# Altium footprint library planar.PcbLib: 42 footprints (part 2 of 3)
Each footprint in its own frame and in the unit in brackets; x right, y up, seen from the top. Pads: shape width x height; smd on the part's side, far side on the other; paste and mask are expansions set on the pad; w line width, h text height; cw(c..) or ccw(c..) is an arc to the next point about the centre after c.
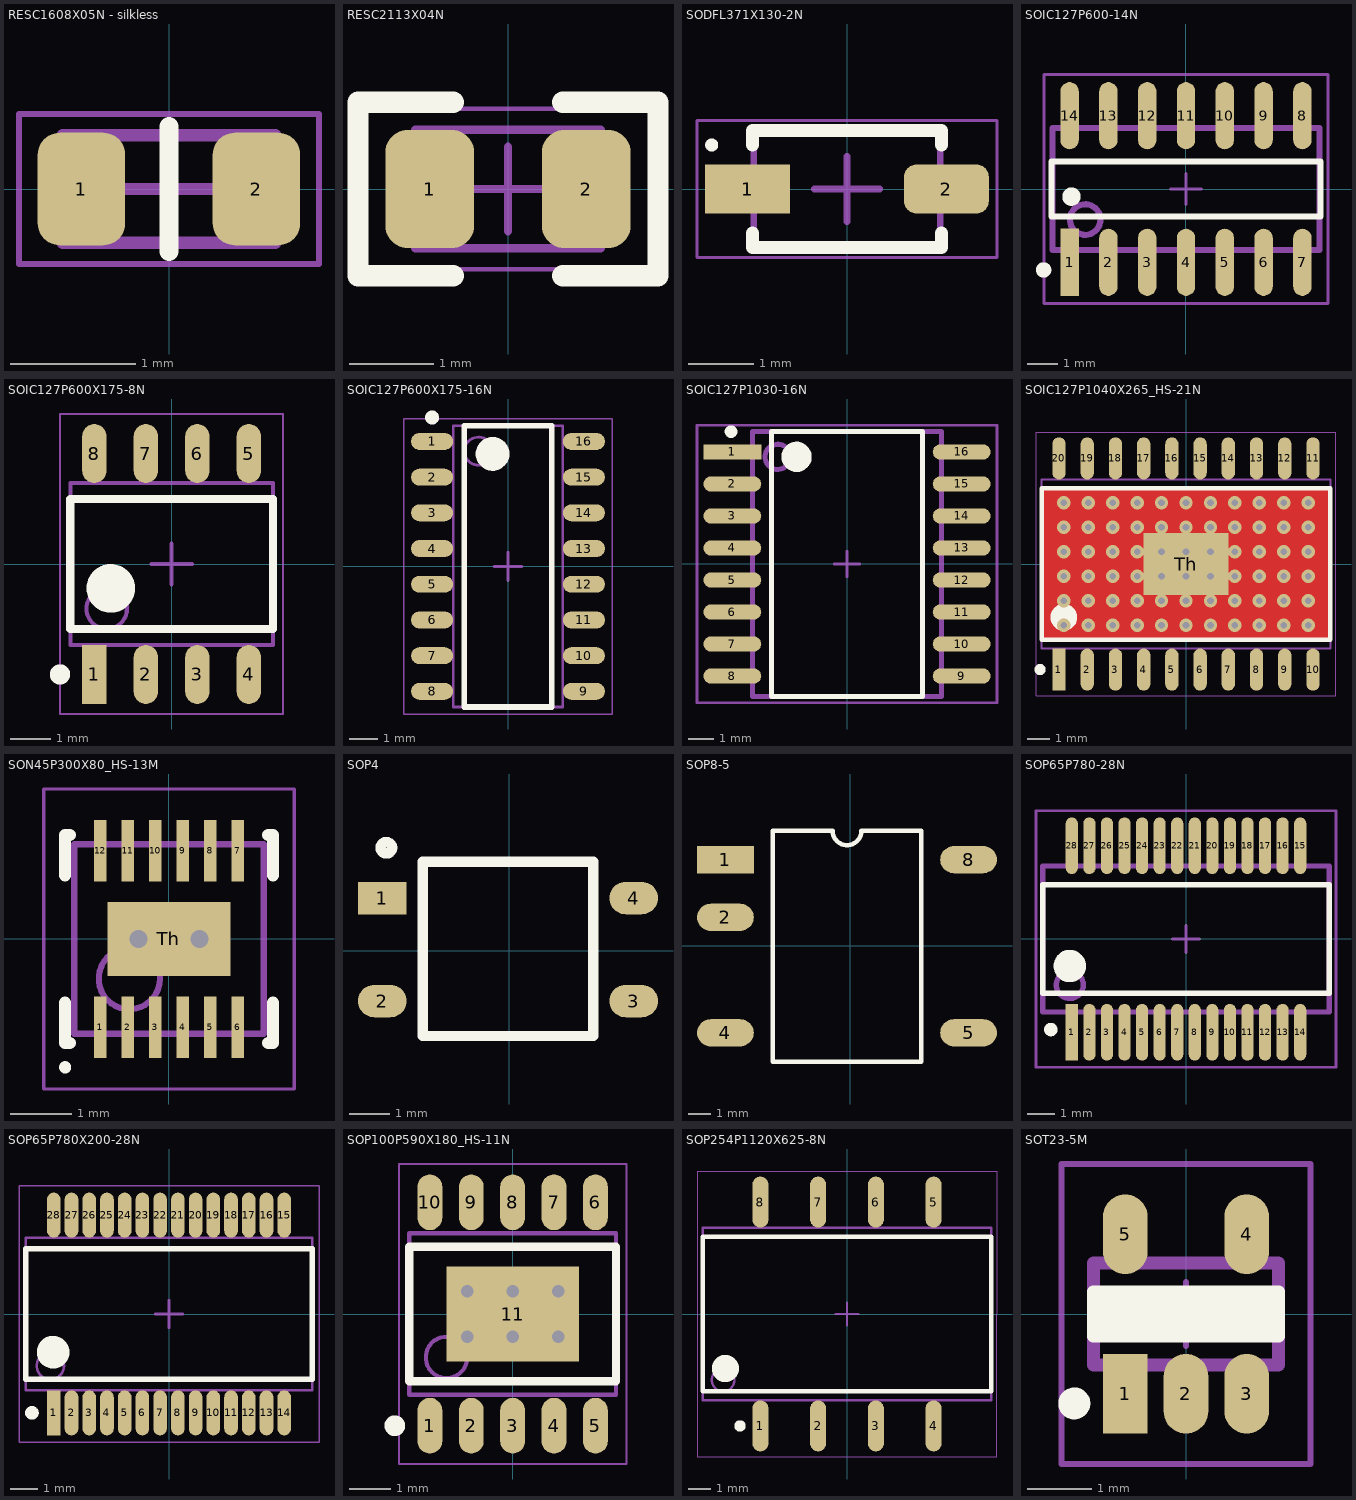
[diagram p1: the footprints below, top view; thin cyan lines are the x and y axes]

## RESC1608X05N - silkless [mm] "Chip Resistor, 2-Leads, Body 1,60x0,85mm, IPC Medium Density"
height 0.5
pads (2):
  rrect50% 0.7x0.9 smd: 1(-0.7,0) 2(0.7,0)
Top Overlay:
  lines w0.15: 0,-0.5 0,0.5
Mechanical 13:
  lines w0.1: -0.85,-0.43 -0.85,0.43 0.85,0.43 0.85,-0.43 -0.85,-0.43
Mechanical 15:
  lines w0.05: -1.2,-0.6 -1.2,0.6 1.2,0.6 1.2,-0.6 -1.2,-0.6
  lines w0.1: -0.43,0 0.43,0 ; 0,-0.43 0,0.43
3D body "Res0603.STEP": height 0.45, standoff 0, extent -0.8,-0.425 0.8,0.425

## RESC2113X04N [mm] "Chip Resistor, 2-Leads, Body 2,10x1,30mm, IPC Medium Density"
height 0.4
pads (2):
  rrect50% 1.05x1.4 smd: 1(-0.925,0) 2(0.925,0)
Top Overlay:
  lines w0.254: -0.65,-1.025 -1.775,-1.025 -1.775,1.025 -0.65,1.025 ; 0.65,-1.025 1.775,-1.025 1.775,1.025 0.65,1.025
Mechanical 13:
  lines w0.1: -1.1,-0.7 1.1,-0.7 1.1,0.7 -1.1,0.7 -1.1,-0.7
Mechanical 15:
  lines w0.05: -1.7,-0.95 1.7,-0.95 1.7,0.95 -1.7,0.95 -1.7,-0.95
  lines w0.1: -0.5,0 0.5,0 ; 0,-0.5 0,0.5
3D body "Res0805.STEP": height 0.5, standoff 0, extent -1.05,-0.65 1.05,0.65

## SODFL371X130-2N [mm] "SODFL, 2-Leads, Body 1,60x3,71mm, IPC Medium Density"
height 1.3
pads (2):
  rect 1.3x0.75 smd: 1(-1.525,0)
  rrect50% 1.3x0.75 smd: 2(1.525,0)
Top Overlay:
  circle w0.1: c-2.075,0.675 r0.05
  lines w0.2: -1.45,-0.675 -1.45,-0.9 1.45,-0.9 1.45,-0.675 ; -1.45,0.675 -1.45,0.9 1.45,0.9 1.45,0.675
Mechanical 13:
  lines w0.1: -1.43,-0.9 -1.43,0.9 1.43,0.9 1.43,-0.9 -1.43,-0.9
Mechanical 15:
  lines w0.05: -2.3,-1.05 -2.3,1.05 2.3,1.05 2.3,-1.05 -2.3,-1.05
  lines w0.1: -0.5,0 0.5,0 ; 0,-0.5 0,0.5
3D body "SODFL371X130-2N.step": height 1.3, standoff 0, extent -1.855,-0.9 1.855,0.9

## SOIC127P600-14N [mm]
pads (14):
  rect 0.6x2.2 smd: 1(-3.802,-2.398)
  oval 0.6x2.2 smd: 2(-2.532,-2.398) 3(-1.262,-2.398) 4(0.008,-2.398) 5(1.278,-2.398) 6(2.548,-2.398) 7(3.818,-2.398) 8(3.818,2.402) 9(2.548,2.402) 10(1.278,2.402) 11(0.008,2.402) 12(-1.262,2.402) 13(-2.532,2.402) 14(-3.802,2.402)
Top Overlay:
  circle w0.3: c-3.742,-0.248 r0.15
  circle w0.25: c-4.652,-2.648 r0.125
  lines w0.2: -4.392,-0.898 -4.392,0.902 4.408,0.902 4.408,-0.898 -4.392,-0.898
Mechanical 11:
  lines w0.001: -4.367,-1.998 -4.367,2.002 4.383,2.002 4.383,-1.998 -4.367,-1.998
Mechanical 13:
  circle w0.2: c-3.292,-0.998 r0.5
  lines w0.2: -4.367,-1.998 -4.367,2.002 4.383,2.002 4.383,-1.998 -4.367,-1.998
Mechanical 15:
  lines w0.1: -0.492,0.002 0.508,0.002 ; 0.008,-0.498 0.008,0.502 ; -4.642,-3.748 -4.642,3.752 4.658,3.752 4.658,-3.748 -4.642,-3.748
3D body "User Library-so14-2.STEP": height 1.78, standoff 0.01, extent -4.315,-3.023 4.385,3.113

## SOIC127P600X175-8N [mm] "SOIC, 8-Leads, Body 4,90x3,90mm, Pitch 1,27mm, IPC Medium Density"
height 1.75
pads (8):
  rect 0.6x1.45 smd: 1(-1.905,-2.725)
  oval 0.6x1.45 smd: 2(-0.635,-2.725) 3(0.635,-2.725) 4(1.905,-2.725) 5(1.905,2.725) 6(0.635,2.725) 7(-0.635,2.725) 8(-1.905,2.725)
Top Overlay:
  circle w0.25: c-2.755,-2.725 r0.125
  circle w0.6: c-1.5,-0.6 r0.3
  lines w0.2: -2.5,-1.6 2.5,-1.6 2.5,1.6 -2.5,1.6 -2.5,-1.6
Mechanical 13:
  circle w0.1: c-1.6,-1.1 r0.5
  lines w0.1: -2.5,-2 2.5,-2 2.5,2 -2.5,2 -2.5,-2
Mechanical 15:
  lines w0.05: -2.75,-3.7 2.75,-3.7 2.75,3.7 -2.75,3.7 -2.75,-3.7
  lines w0.1: -0.5,0 0.5,0 ; 0,-0.5 0,0.5
3D body "SOIC127P600X175-8N.step": height 1.75, standoff 0, extent -2.5,-3 2.5,3

## SOIC127P600X175-16N [mm] "SOIC, 16-Leads, Body 9,90x3,85mm, Pitch 1,27mm, IPC Medium Density"
height 1.75
pads (16):
  oval 1.5x0.6 smd: 1(-2.7,4.445) 2(-2.7,3.175) 3(-2.7,1.905) 4(-2.7,0.635) 5(-2.7,-0.635) 6(-2.7,-1.905) 7(-2.7,-3.175) 8(-2.7,-4.445) 9(2.7,-4.445) 10(2.7,-3.175) 11(2.7,-1.905) 12(2.7,-0.635) 13(2.7,0.635) 14(2.7,1.905) 15(2.7,3.175) 16(2.7,4.445)
Top Overlay:
  circle w0.25: c-2.7,5.295 r0.125
  circle w0.6: c-0.55,4 r0.3
  lines w0.2: -1.55,-5 -1.55,5 1.55,5 1.55,-5 -1.55,-5
Mechanical 13:
  circle w0.1: c-1.05,4.1 r0.5
  lines w0.1: -1.95,-5 -1.95,5 1.95,5 1.95,-5 -1.95,-5
Mechanical 15:
  lines w0.05: -3.7,-5.25 -3.7,5.25 3.7,5.25 3.7,-5.25 -3.7,-5.25
  lines w0.1: -0.5,0 0.5,0 ; 0,-0.5 0,0.5
3D body "SOIC127P600X175-16N.step": height 1.75, standoff 0, extent -3,-5 3,5

## SOIC127P1030-16N [mm]
pads (16):
  rect 2.3x0.6 smd: 1(-4.553,4.436)
  oval 2.3x0.6 smd: 2(-4.553,3.166) 3(-4.553,1.896) 4(-4.553,0.626) 5(-4.553,-0.644) 6(-4.553,-1.914) 7(-4.553,-3.184) 8(-4.553,-4.454) 9(4.547,-4.454) 10(4.547,-3.184) 11(4.547,-1.914) 12(4.547,-0.644) 13(4.547,0.626) 14(4.547,1.896) 15(4.547,3.166) 16(4.547,4.436)
Top Overlay:
  circle w0.25: c-4.603,5.241 r0.125
  circle w0.6: c-2.003,4.241 r0.3
  lines w0.2: -3.003,-5.259 -3.003,5.241 2.997,5.241 2.997,-5.259 -3.003,-5.259
Mechanical 11:
  lines w0.001: -3.753,-5.259 -3.753,5.241 3.747,5.241 3.747,-5.259 -3.753,-5.259
Mechanical 13:
  circle w0.2: c-2.753,4.241 r0.5
  lines w0.2: -3.753,-5.259 -3.753,5.241 3.747,5.241 3.747,-5.259 -3.753,-5.259
Mechanical 15:
  lines w0.1: -0.503,-0.009 0.497,-0.009 ; -0.003,-0.509 -0.003,0.491 ; -5.953,-5.509 -5.953,5.491 5.947,5.491 5.947,-5.509 -5.953,-5.509
3D body "User Library-so16w.STEP": height 3.5, standoff 0, extent -5.075,-5.1 5.225,5.1

## SOIC127P1040X265_HS-21N [mm] "SOIC, 20-Leads, Body 12,82x7,52mm, Pitch 1,27mm, Thermal Pad 3,81x2,79mm, IPC Medium Density"
height 2.65
pads (21):
  rect 0.6x1.9 smd: 1(-5.715,-4.75)
  oval 0.6x1.9 smd: 2(-4.445,-4.75) 3(-3.175,-4.75) 4(-1.905,-4.75) 5(-0.635,-4.75) 6(0.635,-4.75) 7(1.905,-4.75) 8(3.175,-4.75) 9(4.445,-4.75) 10(5.715,-4.75) 11(5.715,4.75) 12(4.445,4.75) 13(3.175,4.75) 14(1.905,4.75) 15(0.635,4.75) 16(-0.635,4.75) 17(-1.905,4.75) 18(-3.175,4.75) 19(-4.445,4.75) 20(-5.715,4.75)
  rect 3.81x2.79 smd: Th(0,0)
via 1.1,0.55 diameter 0.6 hole 0.3
via 1.1,-0.55 diameter 0.6 hole 0.3
via 0,0.55 diameter 0.6 hole 0.3
via 0,-0.55 diameter 0.6 hole 0.3
via -1.1,0.55 diameter 0.6 hole 0.3
via -1.1,-0.55 diameter 0.6 hole 0.3
via 1.1,-1.65 diameter 0.6 hole 0.3
via 0,-1.65 diameter 0.6 hole 0.3
via -1.1,-1.65 diameter 0.6 hole 0.3
via 1.1,-2.75 diameter 0.6 hole 0.3
via 0,-2.75 diameter 0.6 hole 0.3
via -1.1,-2.75 diameter 0.6 hole 0.3
via 1.1,1.65 diameter 0.6 hole 0.3
via 0,1.65 diameter 0.6 hole 0.3
via -1.1,1.65 diameter 0.6 hole 0.3
via 1.1,2.75 diameter 0.6 hole 0.3
via 0,2.75 diameter 0.6 hole 0.3
via -1.1,2.75 diameter 0.6 hole 0.3
via 3.3,0.55 diameter 0.6 hole 0.3
via 3.3,-0.55 diameter 0.6 hole 0.3
via 2.2,0.55 diameter 0.6 hole 0.3
via 2.2,-0.55 diameter 0.6 hole 0.3
via 3.3,-1.65 diameter 0.6 hole 0.3
via 2.2,-1.65 diameter 0.6 hole 0.3
via 3.3,-2.75 diameter 0.6 hole 0.3
via 2.2,-2.75 diameter 0.6 hole 0.3
via 3.3,1.65 diameter 0.6 hole 0.3
via 2.2,1.65 diameter 0.6 hole 0.3
via 3.3,2.75 diameter 0.6 hole 0.3
via 2.2,2.75 diameter 0.6 hole 0.3
via 5.5,0.55 diameter 0.6 hole 0.3
via 5.5,-0.55 diameter 0.6 hole 0.3
via 4.4,0.55 diameter 0.6 hole 0.3
via 4.4,-0.55 diameter 0.6 hole 0.3
via 5.5,-1.65 diameter 0.6 hole 0.3
via 4.4,-1.65 diameter 0.6 hole 0.3
via 5.5,-2.75 diameter 0.6 hole 0.3
via 4.4,-2.75 diameter 0.6 hole 0.3
via 5.5,1.65 diameter 0.6 hole 0.3
via 4.4,1.65 diameter 0.6 hole 0.3
via 5.5,2.75 diameter 0.6 hole 0.3
via 4.4,2.75 diameter 0.6 hole 0.3
via -3.3,0.55 diameter 0.6 hole 0.3
via -3.3,-0.55 diameter 0.6 hole 0.3
via -2.2,0.55 diameter 0.6 hole 0.3
via -2.2,-0.55 diameter 0.6 hole 0.3
via -3.3,-1.65 diameter 0.6 hole 0.3
via -2.2,-1.65 diameter 0.6 hole 0.3
via -3.3,-2.75 diameter 0.6 hole 0.3
via -2.2,-2.75 diameter 0.6 hole 0.3
via -3.3,1.65 diameter 0.6 hole 0.3
via -2.2,1.65 diameter 0.6 hole 0.3
via -3.3,2.75 diameter 0.6 hole 0.3
via -2.2,2.75 diameter 0.6 hole 0.3
via -5.5,0.55 diameter 0.6 hole 0.3
via -5.5,-0.55 diameter 0.6 hole 0.3
via -4.4,0.55 diameter 0.6 hole 0.3
via -4.4,-0.55 diameter 0.6 hole 0.3
via -5.5,-1.65 diameter 0.6 hole 0.3
via -4.4,-1.65 diameter 0.6 hole 0.3
via -5.5,-2.75 diameter 0.6 hole 0.3
via -4.4,-2.75 diameter 0.6 hole 0.3
via -5.5,1.65 diameter 0.6 hole 0.3
via -4.4,1.65 diameter 0.6 hole 0.3
via -5.5,2.75 diameter 0.6 hole 0.3
via -4.4,2.75 diameter 0.6 hole 0.3
Top Layer:
  region: 6.5,-3.4 6.5,3.4 -6.5,3.4 -6.5,-3.4
Bottom Layer:
  region: 6.5,-3.4 6.5,3.4 -6.5,3.4 -6.5,-3.4
Top Overlay:
  circle w0.6: c-5.5,-2.4 r0.3
  circle w0.25: c-6.565,-4.75 r0.125
  lines w0.2: -6.5,-3.4 -6.5,3.4 6.5,3.4 6.5,-3.4 -6.5,-3.4
Mechanical 13:
  circle w0.1: c-5.6,-2.9 r0.5
  lines w0.1: -6.5,-3.8 -6.5,3.8 6.5,3.8 6.5,-3.8 -6.5,-3.8
Mechanical 15:
  lines w0.05: -6.75,-5.925 -6.75,5.925 6.75,5.925 6.75,-5.925 -6.75,-5.925
  lines w0.1: -0.5,0 0.5,0 ; 0,-0.5 0,0.5
3D body "SOIC127P1040X265_HS-21N.step": height 2.65, standoff 0, extent -6.5,-5.202 6.5,5.202

## SON45P300X80_HS-13M [mm] "SON, 12-Leads, Body 3,00x3,00mm, Pitch 0,45mm, Thermal Pad 2,02x1,21mm, IPC Low Density"
height 0.8
pads (13):
  rect 0.2x1 smd mask+0.05: 1(-1.125,-1.445) 2(-0.675,-1.445) 3(-0.225,-1.445) 4(0.225,-1.445) 5(0.675,-1.445) 6(1.125,-1.445) 7(1.125,1.445) 8(0.675,1.445) 9(0.225,1.445) 10(-0.225,1.445) 11(-0.675,1.445) 12(-1.125,1.445)
  rect 2.02x1.21 smd: Th(0,0)
via -0.5,0 diameter 0.6 hole 0.3
via 0.5,0 diameter 0.6 hole 0.3
Top Overlay:
  circle w0.1: c-1.7,-2.1 r0.05
  lines w0.2: -1.7,-1.045 -1.7,-1.7 -1.625,-1.7 ; -1.7,1.045 -1.7,1.7 -1.625,1.7 ; 1.625,-1.7 1.7,-1.7 1.7,-1.045 ; 1.625,1.7 1.7,1.7 1.7,1.045
Mechanical 13:
  circle w0.1: c-0.65,-0.65 r0.5
  lines w0.1: -1.55,-1.55 1.55,-1.55 1.55,1.55 -1.55,1.55 -1.55,-1.55
Mechanical 15:
  lines w0.05: -2.05,-2.455 2.05,-2.455 2.05,2.455 -2.05,2.455 -2.05,-2.455
  lines w0.1: -0.5,0 0.5,0 ; 0,-0.5 0,0.5
3D body "SON45P300X80_HS-13M.step": height 0.8, standoff 0, extent -1.55,-1.65 1.55,1.65

## SOP4 [mm]
height 2.1
pads (4):
  rect 1.2x0.8 smd: 1(-3.125,1.3)
  oval 1.2x0.8 smd: 2(-3.125,-1.24) 3(3.075,-1.24) 4(3.075,1.3)
Top Overlay:
  circle w0.254: c-3.025,2.541 r0.141
  lines w0.254: -2.125,-2.1 -2.125,2.2 2.075,2.2 2.075,-2.1 -2.125,-2.1
3D body "CPC1035.STEP": height 2.1, standoff 0, extent -3.475,-1.947 3.525,1.947

## SOP8-5 [mm]
pads (5):
  rect 2.5x1.2 smd: 1(-5.5,3.8)
  oval 2.5x1.2 smd: 2(-5.5,1.26) 4(-5.5,-3.82) 5(5.2,-3.82) 8(5.2,3.8)
Top Overlay:
  lines w0.2: -3.415,-5.09 3.115,-5.09 3.115,5.07 0.485,5.07 cw(c-0.15,5.07) -0.785,5.07 -3.415,5.07 -3.415,-5.09
3D body "User Library-B_XT-1WR2.STEP": height 7.25, standoff 0, extent -5.6,-6.45 5.6,6.25

## SOP65P780-28N [mm]
pads (28):
  rect 0.45x2.1 smd mask+0.05: 1(-4.235,-3.459)
  oval 0.45x2.1 smd mask+0.05: 2(-3.585,-3.459) 3(-2.935,-3.459) 4(-2.285,-3.459) 5(-1.635,-3.459) 6(-0.985,-3.459) 7(-0.335,-3.459) 8(0.315,-3.459) 9(0.965,-3.459) 10(1.615,-3.459) 11(2.265,-3.459) 12(2.915,-3.459) 13(3.565,-3.459) 14(4.215,-3.459) 15(4.215,3.441) 16(3.565,3.441) 17(2.915,3.441) 18(2.265,3.441) 19(1.615,3.441) 20(0.965,3.441) 21(0.315,3.441) 22(-0.335,3.441) 23(-0.985,3.441) 24(-1.635,3.441) 25(-2.285,3.441) 26(-2.935,3.441) 27(-3.585,3.441) 28(-4.235,3.441)
Top Overlay:
  circle w0.6: c-4.31,-1.009 r0.3
  circle w0.25: c-5.01,-3.359 r0.125
  lines w0.2: -5.31,-2.009 -5.31,1.991 5.29,1.991 5.29,-2.009 -5.31,-2.009
Mechanical 11:
  lines w0.001: -5.31,-2.709 -5.31,2.691 5.29,2.691 5.29,-2.709 -5.31,-2.709
Mechanical 13:
  circle w0.2: c-4.31,-1.709 r0.5
  lines w0.2: -5.31,-2.709 -5.31,2.691 5.29,2.691 5.29,-2.709 -5.31,-2.709
Mechanical 15:
  lines w0.1: -0.51,-0.009 0.49,-0.009 ; -0.01,-0.509 -0.01,0.491 ; -5.56,-4.759 -5.56,4.741 5.54,4.741 5.54,-4.759 -5.56,-4.759
3D body "User Library-SSOP-28-FT232RL.STEP": height 2.16, standoff 0, extent -5.184,-3.952 5.147,3.804

## SOP65P780X200-28N [mm] "SOP, 28-Leads, Body 10,20x5,30mm, Pitch 0,65mm, IPC Medium Density"
height 2
pads (28):
  rect 0.5x1.65 smd mask+0.05: 1(-4.225,-3.625)
  oval 0.5x1.65 smd mask+0.05: 2(-3.575,-3.625) 3(-2.925,-3.625) 4(-2.275,-3.625) 5(-1.625,-3.625) 6(-0.975,-3.625) 7(-0.325,-3.625) 8(0.325,-3.625) 9(0.975,-3.625) 10(1.625,-3.625) 11(2.275,-3.625) 12(2.925,-3.625) 13(3.575,-3.625) 14(4.225,-3.625) 15(4.225,3.625) 16(3.575,3.625) 17(2.925,3.625) 18(2.275,3.625) 19(1.625,3.625) 20(0.975,3.625) 21(0.325,3.625) 22(-0.325,3.625) 23(-0.975,3.625) 24(-1.625,3.625) 25(-2.275,3.625) 26(-2.925,3.625) 27(-3.575,3.625) 28(-4.225,3.625)
Top Overlay:
  circle w0.6: c-4.25,-1.4 r0.3
  circle w0.25: c-5.025,-3.625 r0.125
  lines w0.2: -5.25,-2.4 -5.25,2.4 5.25,2.4 5.25,-2.4 -5.25,-2.4
Mechanical 13:
  circle w0.1: c-4.35,-1.9 r0.5
  lines w0.1: -5.25,-2.8 -5.25,2.8 5.25,2.8 5.25,-2.8 -5.25,-2.8
Mechanical 15:
  lines w0.05: -5.5,-4.7 -5.5,4.7 5.5,4.7 5.5,-4.7 -5.5,-4.7
  lines w0.1: -0.5,0 0.5,0 ; 0,-0.5 0,0.5
3D body "SOP65P780X200-28N.step": height 2, standoff 0, extent -5.25,-3.9 5.25,3.9

## SOP100P590X180_HS-11N [mm] "SOP, 10-Leads, Body 4,90x3,80mm, Pitch 1,00mm, Thermal Pad 3,20x2,30mm, IPC Medium Density"
height 1.8
pads (11):
  oval 0.6x1.35 smd: 1(-2,-2.7) 2(-1,-2.7) 3(0,-2.7) 4(1,-2.7) 5(2,-2.7) 6(2,2.7) 7(1,2.7) 8(0,2.7) 9(-1,2.7) 10(-2,2.7)
  rect 3.2x2.3 smd: 11(0,0)
via 1.1,0.55 diameter 0.6 hole 0.3
via 1.1,-0.55 diameter 0.6 hole 0.3
via 0,0.55 diameter 0.6 hole 0.3
via 0,-0.55 diameter 0.6 hole 0.3
via -1.1,0.55 diameter 0.6 hole 0.3
via -1.1,-0.55 diameter 0.6 hole 0.3
Top Overlay:
  circle w0.25: c-2.85,-2.7 r0.125
  lines w0.2: -2.5,-1.625 -2.5,1.625 2.5,1.625 2.5,-1.625 -2.5,-1.625
Mechanical 13:
  circle w0.1: c-1.6,-1.05 r0.5
  lines w0.1: -2.5,-1.95 -2.5,1.95 2.5,1.95 2.5,-1.95 -2.5,-1.95
Mechanical 15:
  lines w0.05: -2.75,-3.625 -2.75,3.625 2.75,3.625 2.75,-3.625 -2.75,-3.625
  lines w0.1: -0.5,0 0.5,0 ; 0,-0.5 0,0.5
3D body "SOP100P590X180_HS-11N.step": height 1.8, standoff 0, extent -2.5,-2.95 2.5,2.95

## SOP254P1120X625-8N [mm] "SOP, 8-Leads, Body 12,70x7,50mm, Pitch 2,54mm, IPC Medium Density"
height 6.25
pads (8):
  oval 0.7x2.25 smd: 1(-3.81,-4.925) 2(-1.27,-4.925) 3(1.27,-4.925) 4(3.81,-4.925) 5(3.81,4.925) 6(1.27,4.925) 7(-1.27,4.925) 8(-3.81,4.925)
Top Overlay:
  circle w0.6: c-5.35,-2.4 r0.3
  circle w0.25: c-4.71,-4.925 r0.125
  lines w0.2: -6.35,-3.4 -6.35,3.4 6.35,3.4 6.35,-3.4 -6.35,-3.4
Mechanical 2:
  circle w0.1: c-5.45,-2.9 r0.5
  lines w0.1: -6.35,-3.8 -6.35,3.8 6.35,3.8 6.35,-3.8 -6.35,-3.8
Mechanical 4:
  lines w0.05: -6.6,-6.275 -6.6,6.275 6.6,6.275 6.6,-6.275 -6.6,-6.275
  lines w0.1: -0.5,0 0.5,0 ; 0,-0.5 0,0.5
3D body "SOP254P1120X625-8N.step": height 6.25, standoff 0, extent -6.35,-5.6 6.35,5.6

## SOT23-5M [mm]
pads (5):
  rect 0.7x1.25 smd: 1(-0.956,-1.25)
  oval 0.7x1.25 smd: 2(-0.006,-1.25) 3(0.944,-1.25) 4(0.944,1.25) 5(-0.956,1.25)
Top Overlay:
  circle w0.25: c-1.756,-1.4 r0.125
  lines w0.2: -1.456,-0.25 1.444,-0.25 ; -1.456,-0.1 1.444,-0.1 ; -1.456,0.05 1.444,0.05 ; -1.456,0.2 1.444,0.2 ; -1.456,-0.35 1.444,-0.35 1.444,0.35 -1.456,0.35 -1.456,-0.35
Mechanical 11:
  lines w0.001: -1.456,-0.8 1.444,-0.8 1.444,0.8 -1.456,0.8 -1.456,-0.8
Mechanical 13:
  lines w0.2: -1.456,-0.8 -1.456,0.8 1.444,0.8 1.444,-0.8 -1.456,-0.8
Mechanical 15:
  lines w0.1: -0.506,0 0.494,0 ; -0.006,-0.5 -0.006,0.5 ; -1.956,-2.35 1.944,-2.35 1.944,2.35 -1.956,2.35 -1.956,-2.35
3D body "User Library-SOT23-5-1.STEP": height 1.3, standoff 0, extent -1.5,-1.5 1.5,1.5